# EAGLE library part FM24* (library Ramtron)
I2C NVRAM 8 pin
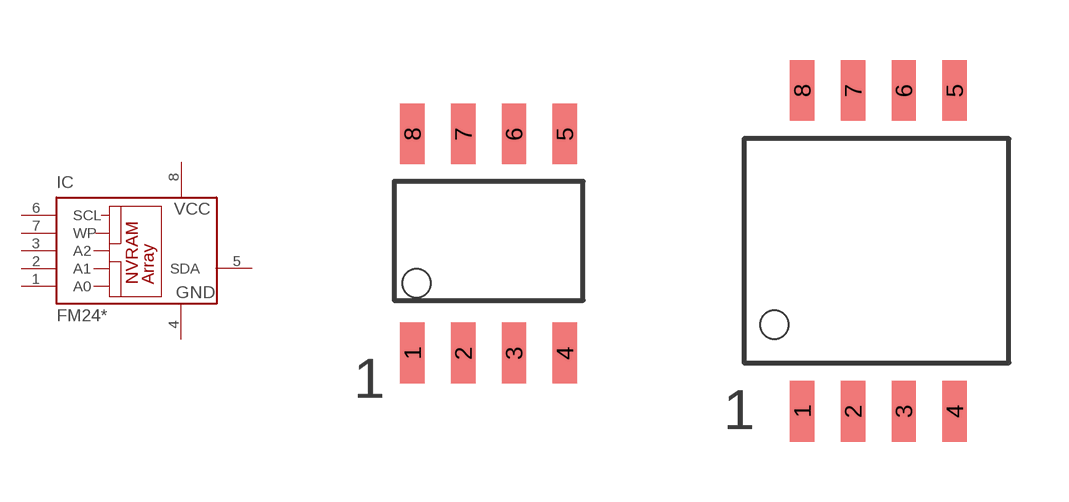
[diagram p5: symbol with the pads of SO8; footprints SO8, SO8W]

Designator prefix IC

## FM24-SG  [SO8]
1  A0  pas
2  A1  pas
3  A2  pas
4  GND  pwr
5  SDA
6  SCL  in
7  WP  in
8  VCC  pwr

## FM24-SE  [SO8W]
Pads as for SO8

## FM24-DG  [TSSOP8]
Pads as for SO8

## FM24-DFN  [DFN-8]
Pads as for SO8

## Footprint SO8 (pad centres in mm)
SO8 narrow body (4mm wide)
smd 0.61 x 1.524: 1 -1.27,-2.743; 2 0,-2.743; 3 1.27,-2.743; 4 2.54,-2.743; 5 2.54,2.743; 6 1.27,2.743; 7 0,2.743; 8 -1.27,2.743

## Footprint SO8W (pad centres in mm)
SO8 wide body (6mm body)
smd 0.61 x 1.524: 1 -1.27,-4.013; 2 0,-4.013; 3 1.27,-4.013; 4 2.54,-4.013; 5 2.54,4.013; 6 1.27,4.013; 7 0,4.013; 8 -1.27,4.013

## Footprint TSSOP8 (pad centres in mm)
TSSOP 8 pin type ST pitch 0.65mm pin width 1mm Body 2.5 x 6,4mm
smd 0.35 x 1.2: 1 -0.975,-2.925; 2 -0.325,-2.925; 3 0.325,-2.925; 4 0.975,-2.925; 5 0.975,2.925; 6 0.325,2.925; 7 -0.325,2.925; 8 -0.975,2.925

## Footprint DFN-8 (pad centres in mm)
DFN-8 4 x 4.5 mm body 0.95mm pitch 0.5 x 0.5mm pads
smd 0.5 x 0.5: 1 -1.425,-2.05; 2 -0.475,-2.05; 3 0.475,-2.05; 4 1.425,-2.05; 5 1.425,2.05; 6 0.475,2.05; 7 -0.475,2.05; 8 -1.425,2.05